# Altium footprint library ECS-5032MV.PcbLib: 1 footprints
Each footprint in its own frame and in the unit in brackets; x right, y up, seen from the top. Pads: shape width x height; smd on the part's side, far side on the other; paste and mask are expansions set on the pad; w line width, h text height; cw(c..) or ccw(c..) is an arc to the next point about the centre after c.
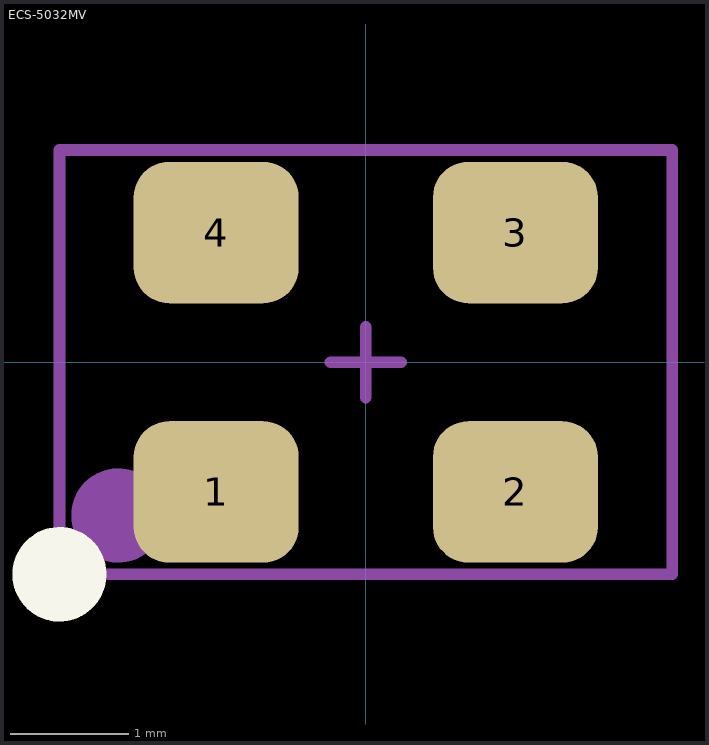
[diagram p0: the footprint, top view; thin cyan lines are the x and y axes]

## ECS-5032MV [mm]
pads (4):
  rrect50% 1.4x1.2 smd mask+0.05: 1(-1.27,-1.1) 2(1.27,-1.1) 3(1.27,1.1) 4(-1.27,1.1)
Top Overlay:
  circle w0.4: c-2.6,-1.8 r0.2
Top Assembly:
  circle w0.4: c-2.1,-1.3 r0.2
  lines w0.1: -0.3,0 0.3,0 ; 0,-0.3 0,0.3 ; -2.6,-1.8 2.6,-1.8 2.6,1.8 -2.6,1.8 -2.6,-1.8
Top Courtyard:
  lines w0.1: -2.6,-1.8 -2.6,0.1 -2.6,1.8 2.6,1.8 2.6,-1.8 -2.6,-1.8
3D body "User Library-Crystal_SMD5032.step": height 0.85, standoff -0.01, extent -2.5,-1.6 2.444,1.6